# Altium integrated library dv_power.IntLib: 14 symbols
Pins are listed as number, name and electrical type; pins without a type are passive.

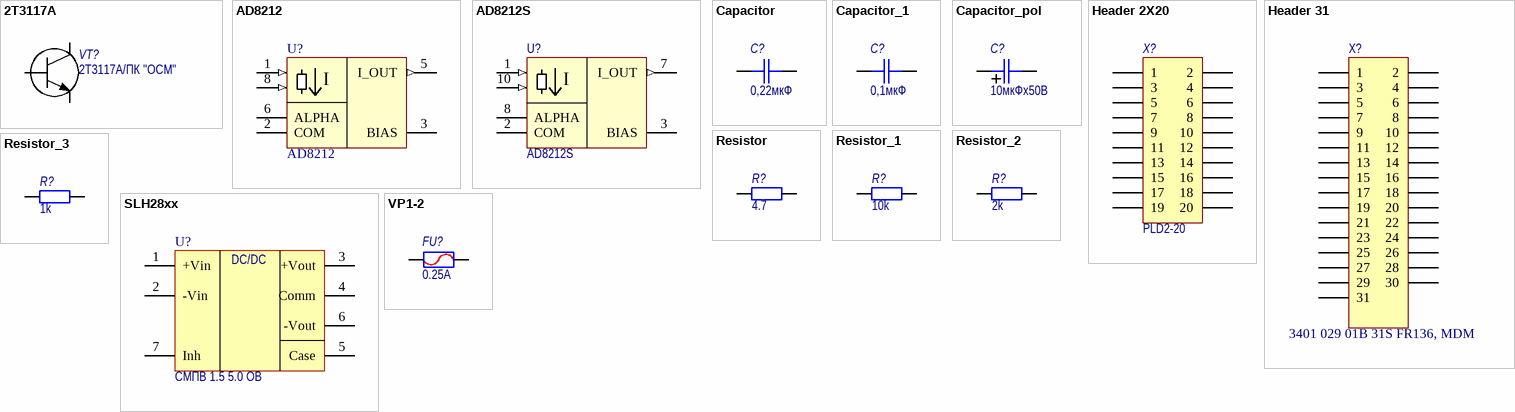
[diagram p0: symbols 2T3117A to VP1-2]

## 2T3117A
designator VT?  Наименование: 2Т3117А/ПК "ОСМ"  (hidden comment: 2T3117A)
Кремниевый биполярный / эпитаксиально-планарный / n-p-n транзистор; Назначение: Биполярный транзистор; Потребление, Вт: 0,0; ComponentLink1Description: DataSheet; ComponentLink1URL: https://www.integral.by/sites/default/files/pdf/2t3117.pdf
footprint TO-18
pins: 1 EMITTER, 2 BASE, 3 COLLECTOR

## AD8212
designator U?
Current shunt monitor; Назначение: Токовый датчик; Потребление, Вт: 0,005; Наименование: AD8212; ComponentLink1Description: DataSheet; ComponentLink1URL: https://www.analog.com/media/en/technical-documentation/data-sheets/AD8212.pdf
footprint MSOP-8
pins: 1 V+ (in), 2 COM (oc), 3 BIAS (oc), 5 I_OUT (out), 6 ALPHA (oc), 8 V_SENSE (in)
text: I

## AD8212S
designator U?
Назначение: Токовый датчик; Наименование: AD8212S
footprint FlatPack-10
footprint FlatPack-10_MSOP-8
pins: 1 V+ (in), 2 COM (oc), 3 BIAS (oc), 7 I_OUT (out), 8 ALPHA (oc), 10 V_SENSE (in)
text: I

## Capacitor
designator C?, comment 0,22мкФ
Capacitor; Назначение: SMD-конденсатор; Наименование: Конденсатор; Потребление, Вт: 0; Value: 0,22мкФ
footprint SMD_0402
footprint SMD_0603
footprint SMD_0805
footprint SMD_1206
footprint SMD_1206-0805
pins: 1, 2

## Capacitor_1
designator C?, comment 0,1мкФ
Capacitor; Назначение: SMD-конденсатор; Наименование: Конденсатор; Потребление, Вт: 0; Value: 0,1мкФ
footprint SMD_0402
footprint SMD_0603
footprint SMD_0805
footprint SMD_1206
footprint SMD_1206-0805
pins: 1, 2

## Capacitor_pol
designator C?, comment 10мкФх50В
Polarized capacitor; Назначение: Поляризованный SMD-конденсатор; Наименование: Поляризованный конденсатор; Потребление, Вт: 0; Value: 10мкФх50В
footprint SMD_size_B
footprint SMD_size_C
footprint SMD_size_D
pins: 1, 2

## Header 2X20
designator X?  Наименование: PLD2-20  (hidden comment: Header 2X20)
Header, 20-Pin, Dual row; Потребление, Вт: 0,0; Назначение: Header, 20-Pin, Dual row
footprint PLD2-20
footprint PLD2-20R
footprint SD87340-20
footprint PBD2-20s
footprint PBD-20
pins: 1, 2, 3, 4, 5, 6, 7, 8, 9, 10, 11, 12, 13, 14, 15, 16, 17, 18, 19, 20

## Header 31
designator X?, comment 3401 029 01B 31S FR136, MDM
Header, 31-Pin; Потребление: 0; Назначение: Header, 31-Pin; Наименование: 3401 029 01B 31S FR136, MDM
footprint MDM-31
footprint Назначение (Footprint not found)
pins: 1, 2, 3, 4, 5, 6, 7, 8, 9, 10, 11, 12, 13, 14, 15, 16, 17, 18, 19, 20, 21, 22, 23, 24, 25, 26, 27, 28, 29, 30, 31

## Resistor
designator R?, comment 4.7
Resistor; Наименование: Резистор; Назначение: SMD-резистор; Потребление, Вт: 0,001; Value: 4.7
footprint SMD_0402
footprint SMD_0603
footprint SMD_0805
footprint SMD_1206
footprint SMD_1206-0805
footprint SMD_6332 (Chip Resistor, Body 6.3x3.2mm, IPC High Density)
pins: 1, 2

## Resistor_1
designator R?, comment 10k
Resistor; Наименование: Резистор; Назначение: SMD-резистор; Потребление, Вт: 0,001; Value: 10k
footprint SMD_0402
footprint SMD_0603
footprint SMD_0805
footprint SMD_1206
footprint SMD_1206-0805
footprint SMD_6332 (Chip Resistor, Body 6.3x3.2mm, IPC High Density)
pins: 1, 2

## Resistor_2
designator R?, comment 2k
Resistor; Наименование: Резистор; Назначение: SMD-резистор; Потребление, Вт: 0,001; Value: 2k
footprint SMD_0402
footprint SMD_0603
footprint SMD_0805
footprint SMD_1206
footprint SMD_1206-0805
footprint SMD_6332 (Chip Resistor, Body 6.3x3.2mm, IPC High Density)
pins: 1, 2

## Resistor_3
designator R?, comment 1k
Resistor; Наименование: Резистор; Назначение: SMD-резистор; Потребление, Вт: 0,001; Value: 1k
footprint SMD_0402
footprint SMD_0603
footprint SMD_0805
footprint SMD_1206
footprint SMD_1206-0805
footprint SMD_6332 (Chip Resistor, Body 6.3x3.2mm, IPC High Density)
pins: 1, 2

## SLH28xx
designator U?  (value not drawn)
DC-DC; Назначение: DC-DC преобразователь; Потребление, Вт: 0.1; ComponentLink1Description: DataSheet; ComponentLink1URL: https://www.interpoint.com/product_documents/SLH_Space_DC_DC_Converters.pdf
footprint SLH28xx
pins: 1 +Vin (oc), 2 -Vin (oc), 3 +Vout (oc), 4 Comm (oc), 5 Case, 6 -Vout (oc), 7 Inh (oc)
text: DC/DC; СМПВ 1.5 5.0 ОВ

## VP1-2
designator FU?  value 0.25A  (hidden comment: VP1-2)
Предохранитель плавкий; Наименование: ВП1-2 "ВП"; Назначение: Предохранитель плавкий; ComponentLink1Description: DataSheet; ComponentLink1URL: https://docviewer.yandex.ru/view/20572601/?page=1&*=oYyHA%2BCwzeyRvrmOJV6%2ByaBlbHJ7InVybCI6Imh0dHBzOi8vZWwtcmEucnUvdXBsb2FkL2libG9jay8wMTYvdnN0YXZrYS1wbGF2a2EtdnAxXzItX2VsZWt0cm9uaWthX3JhXy5wZGYiLCJ0aXRsZSI6InZzdGF2a2EtcGxhdmthLXZwMV8yLV9lbGVrdHJvbmlrYV9yYV8ucGRmIiwibm9pZnJhbWUiOnRydWUsInVpZCI6IjIwNTcyNjAxIiwidHMiOjE1OTI0NzI0NTM1MTUsInl1IjoiODg5MDYxMzMxNTQzMzg3MTIxIiwic2VycFBhcmFtcyI6Imxhbmc9cnUmdG09MTU5MjQ3MjQyOCZ0bGQ9cnUmbmFtZT12c3RhdmthLXBsYXZrYS12cDFfMi1fZWxla3Ryb25pa2FfcmFfLnBkZiZ0ZXh0PSVEMCVCMiVEMCVCRjEtMiZ1cmw9aHR0cHMlM0EvL2VsLXJhLnJ1L3VwbG9hZC9pYmxvY2svMDE2L3ZzdGF2a2EtcGxhdmthLXZwMV8yLV9lbGVrdHJvbmlrYV9yYV8ucGRmJmxyPTY1Jm1pbWU9cGRmJmwxMG49cnUmc2lnbj0yZWMwNDRiZDQyMGRlMjRmMjI1MThkNTc4YjZlMTlkYiZrZXlubz0wIn0%3D&lang=ru
footprint VP1-2
pins: 1, 2